# Altium schematic symbol library CC0603KRX7R9BB104.SchLib: 2 symbols
Pins are listed as number, name and electrical type; pins without a type are passive.

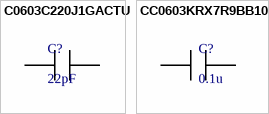
[diagram p0: symbols C0603C220J1GACTU to CC0603KRX7R9BB104]

## C0603C220J1GACTU
designator C?, comment 22pF
22pF C0G, 22 pF, 5%, 100 VDC, C0G; Manufacturer_Part_Number: C0603C220J1GACTU
footprint CAPC17595_87N_KEM
pins: 1, 2

## CC0603KRX7R9BB104
designator C?, comment 0.1u
50V X7R 0603; Manufacturer_Part_Number: CC0603KRX7R9BB104
footprint CAPC17595_87N_KEM
pins: 1, 2